# Altium schematic symbol library CY8C4013SXI-411T.SchLib: 1 symbol
Pins are listed as number, name and electrical type; pins without a type are passive.

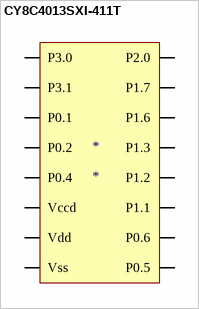
[diagram p0: symbol CY8C4013SXI-411T]

## CY8C4013SXI-411T
designator *
footprint CY8C4013SXI-411T (Cypress - IC MCU 32BIT 8KB FLASH 16SOIC)
pins: 1 P3.0, 2 P3.1, 3 P0.1, 4 P0.2, 5 P0.4, 6 Vccd, 7 Vdd, 8 Vss, 9 P0.5, 10 P0.6, 11 P1.1, 12 P1.2, 13 P1.3, 14 P1.6, 15 P1.7, 16 P2.0